# Altium footprint library MountingHole.PcbLib: 167 footprints (part 9 of 11)
Each footprint in its own frame and in the unit in brackets; x right, y up, seen from the top. Pads: shape width x height; smd on the part's side, far side on the other; paste and mask are expansions set on the pad; w line width, h text height; cw(c..) or ccw(c..) is an arc to the next point about the centre after c.
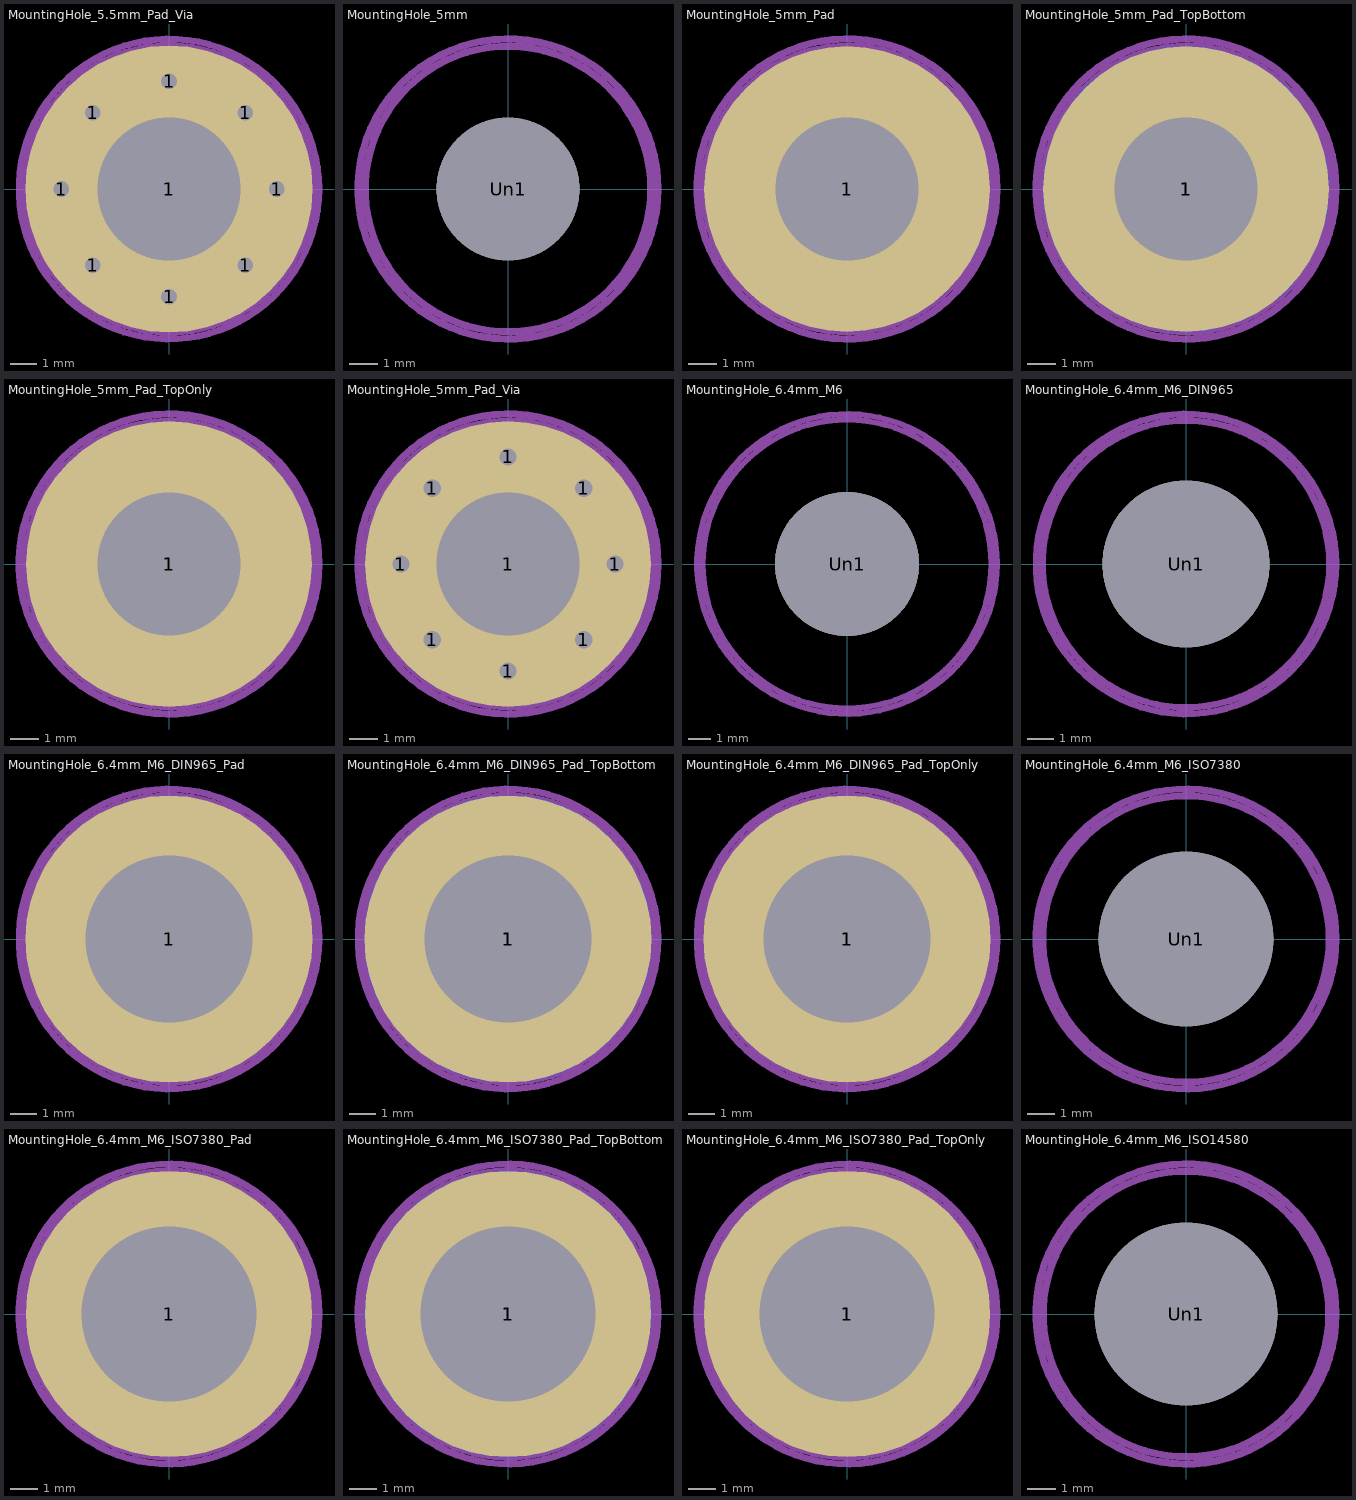
[diagram p8: the footprints below, top view; thin cyan lines are the x and y axes]

## MountingHole_5.5mm_Pad_Via [mm]
pads (9):
  round 0.9 hole 0.6: 1(-4.125,0) 1(-2.917,-2.917) 1(-2.917,2.917) 1(0,-4.125) 1(0,4.125) 1(2.917,-2.917) 1(2.917,2.917) 1(4.125,0)
  round 11 hole 5.5: 1(0,0)
Top Assembly:
  text "'.Designator'" at -4.047,-0.84 h1
Top Courtyard:
  circle w0.254: c0,0 r5.75
Top Designator:
  text ".Designator" at -7.618,-0.508 h1.52
Cmts.User:
  circle w0.254: c0,0 r5.5

## MountingHole_5mm [mm]
pads (1):
  round 5 hole 5: Un1(0,0)
Top Assembly:
  text "'.Designator'" at -4.047,-0.84 h1
Top Courtyard:
  circle w0.254: c0,0 r5.25
Top Designator:
  text ".Designator" at -7.618,-0.508 h1.52
Cmts.User:
  circle w0.254: c0,0 r5

## MountingHole_5mm_Pad [mm]
pads (1):
  round 10 hole 5: 1(0,0)
Top Assembly:
  text "'.Designator'" at -4.047,-0.84 h1
Top Courtyard:
  circle w0.254: c0,0 r5.25
Top Designator:
  text ".Designator" at -7.618,-0.508 h1.52
Cmts.User:
  circle w0.254: c0,0 r5

## MountingHole_5mm_Pad_TopBottom [mm]
pads (3):
  round 5.4 hole 5: 1(0,0)
  round 10 smd: 1(0,0)
  round 10 smd far side: 1(0,0)
Top Assembly:
  text "'.Designator'" at -4.047,-0.84 h1
Top Courtyard:
  circle w0.254: c0,0 r5.25
Top Designator:
  text ".Designator" at -7.618,-0.508 h1.52
Cmts.User:
  circle w0.254: c0,0 r5

## MountingHole_5mm_Pad_TopOnly [mm]
pads (2):
  round 5.4 hole 5: 1(0,0)
  round 10 smd: 1(0,0)
Top Assembly:
  text "'.Designator'" at -4.047,-0.84 h1
Top Courtyard:
  circle w0.254: c0,0 r5.25
Top Designator:
  text ".Designator" at -7.618,-0.508 h1.52
Cmts.User:
  circle w0.254: c0,0 r5

## MountingHole_5mm_Pad_Via [mm]
pads (9):
  round 0.9 hole 0.6: 1(-3.75,0) 1(-2.652,-2.652) 1(-2.652,2.652) 1(0,-3.75) 1(0,3.75) 1(2.652,-2.652) 1(2.652,2.652) 1(3.75,0)
  round 10 hole 5: 1(0,0)
Top Assembly:
  text "'.Designator'" at -4.047,-0.84 h1
Top Courtyard:
  circle w0.254: c0,0 r5.25
Top Designator:
  text ".Designator" at -7.618,-0.508 h1.52
Cmts.User:
  circle w0.254: c0,0 r5

## MountingHole_6.4mm_M6 [mm]
pads (1):
  round 6.4 hole 6.4: Un1(0,0)
Top Assembly:
  text "'.Designator'" at -4.047,-0.84 h1
Top Courtyard:
  circle w0.254: c0,0 r6.65
Top Designator:
  text ".Designator" at -7.618,-0.508 h1.52
Cmts.User:
  circle w0.254: c0,0 r6.4

## MountingHole_6.4mm_M6_DIN965 [mm]
pads (1):
  round 6.4 hole 6.4: Un1(0,0)
Top Assembly:
  text "'.Designator'" at -4.047,-0.84 h1
Top Courtyard:
  circle w0.254: c0,0 r5.75
Top Designator:
  text ".Designator" at -7.618,-0.508 h1.52
Cmts.User:
  circle w0.254: c0,0 r5.5

## MountingHole_6.4mm_M6_DIN965_Pad [mm]
pads (1):
  round 11 hole 6.4: 1(0,0)
Top Assembly:
  text "'.Designator'" at -4.047,-0.84 h1
Top Courtyard:
  circle w0.254: c0,0 r5.75
Top Designator:
  text ".Designator" at -7.618,-0.508 h1.52
Cmts.User:
  circle w0.254: c0,0 r5.5

## MountingHole_6.4mm_M6_DIN965_Pad_TopBottom [mm]
pads (3):
  round 6.8 hole 6.4: 1(0,0)
  round 11 smd: 1(0,0)
  round 11 smd far side: 1(0,0)
Top Assembly:
  text "'.Designator'" at -4.047,-0.84 h1
Top Courtyard:
  circle w0.254: c0,0 r5.75
Top Designator:
  text ".Designator" at -7.618,-0.508 h1.52
Cmts.User:
  circle w0.254: c0,0 r5.5

## MountingHole_6.4mm_M6_DIN965_Pad_TopOnly [mm]
pads (2):
  round 6.8 hole 6.4: 1(0,0)
  round 11 smd: 1(0,0)
Top Assembly:
  text "'.Designator'" at -4.047,-0.84 h1
Top Courtyard:
  circle w0.254: c0,0 r5.75
Top Designator:
  text ".Designator" at -7.618,-0.508 h1.52
Cmts.User:
  circle w0.254: c0,0 r5.5

## MountingHole_6.4mm_M6_ISO7380 [mm]
pads (1):
  round 6.4 hole 6.4: Un1(0,0)
Top Assembly:
  text "'.Designator'" at -4.047,-0.84 h1
Top Courtyard:
  circle w0.254: c0,0 r5.5
Top Designator:
  text ".Designator" at -7.618,-0.508 h1.52
Cmts.User:
  circle w0.254: c0,0 r5.25

## MountingHole_6.4mm_M6_ISO7380_Pad [mm]
pads (1):
  round 10.5 hole 6.4: 1(0,0)
Top Assembly:
  text "'.Designator'" at -4.047,-0.84 h1
Top Courtyard:
  circle w0.254: c0,0 r5.5
Top Designator:
  text ".Designator" at -7.618,-0.508 h1.52
Cmts.User:
  circle w0.254: c0,0 r5.25

## MountingHole_6.4mm_M6_ISO7380_Pad_TopBottom [mm]
pads (3):
  round 6.8 hole 6.4: 1(0,0)
  round 10.5 smd: 1(0,0)
  round 10.5 smd far side: 1(0,0)
Top Assembly:
  text "'.Designator'" at -4.047,-0.84 h1
Top Courtyard:
  circle w0.254: c0,0 r5.5
Top Designator:
  text ".Designator" at -7.618,-0.508 h1.52
Cmts.User:
  circle w0.254: c0,0 r5.25

## MountingHole_6.4mm_M6_ISO7380_Pad_TopOnly [mm]
pads (2):
  round 6.8 hole 6.4: 1(0,0)
  round 10.5 smd: 1(0,0)
Top Assembly:
  text "'.Designator'" at -4.047,-0.84 h1
Top Courtyard:
  circle w0.254: c0,0 r5.5
Top Designator:
  text ".Designator" at -7.618,-0.508 h1.52
Cmts.User:
  circle w0.254: c0,0 r5.25

## MountingHole_6.4mm_M6_ISO14580 [mm]
pads (1):
  round 6.4 hole 6.4: Un1(0,0)
Top Assembly:
  text "'.Designator'" at -4.047,-0.84 h1
Top Courtyard:
  circle w0.254: c0,0 r5.25
Top Designator:
  text ".Designator" at -7.618,-0.508 h1.52
Cmts.User:
  circle w0.254: c0,0 r5